# EAGLE library part FM-1602C (library MyLibrary)
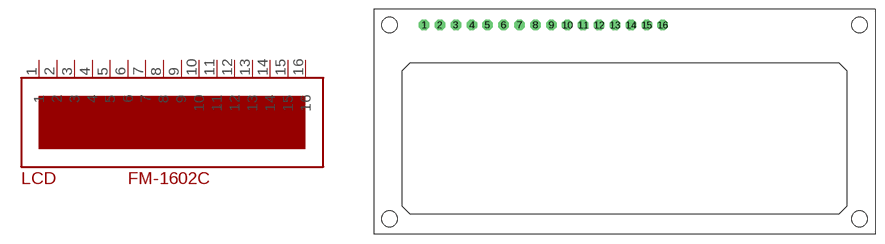
[diagram p30: symbol with the pads of FM-1602C; footprint FM-1602C]

Designator prefix LCD

## FM-1602C  [FM-1602C]
1  1
2  2
3  3
4  4
5  5
6  6
7  7
8  8
9  9
10  10
11  11
12  12
13  13
14  14
15  15
16  16

## Footprint FM-1602C (pad centres in mm)
drill 0.8 pad 1.676 octagon: 1 -32,17.5; 2 -29.46,17.5; 3 -26.92,17.5; 4 -24.38,17.5; 5 -21.84,17.5; 6 -19.3,17.5; 7 -16.76,17.5; 8 -14.22,17.5; 9 -11.68,17.5; 10 -9.14,17.5; 11 -6.6,17.5; 12 -4.06,17.5; 13 -1.52,17.5; 14 1.02,17.5; 15 3.56,17.5; 16 6.1,17.5
hole 2.5 at -37.5,17.5
hole 2.5 at -37.5,-13.5
hole 2.5 at 37.5,17.5
hole 2.5 at 37.5,-13.5